# Altium footprint library KSU213WLFG.PcbLib: 1 footprints
Each footprint in its own frame and in the unit in brackets; x right, y up, seen from the top. Pads: shape width x height; smd on the part's side, far side on the other; paste and mask are expansions set on the pad; w line width, h text height; cw(c..) or ccw(c..) is an arc to the next point about the centre after c.
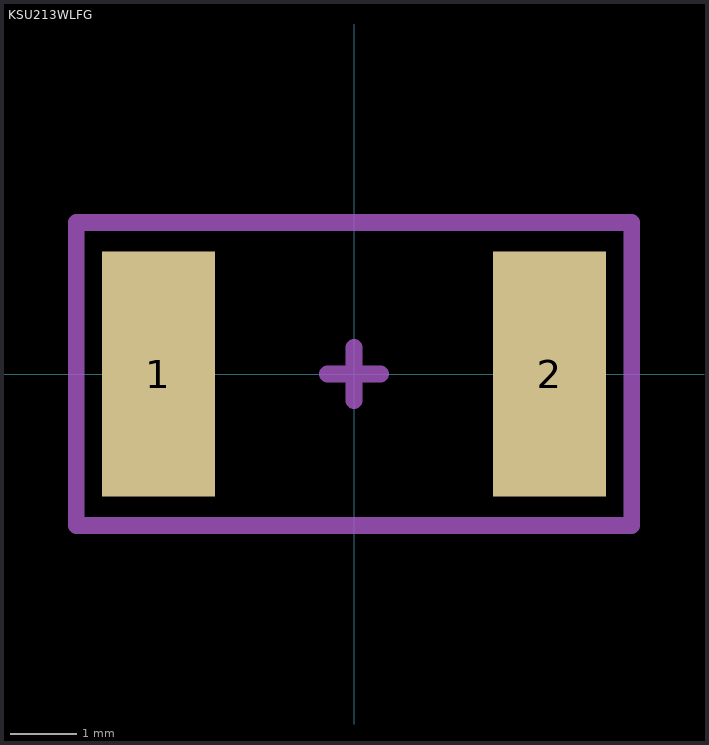
[diagram p0: the footprint, top view; thin cyan lines are the x and y axes]

## KSU213WLFG [mm]
height 5.105
pads (2):
  rect 1.7x3.7 smd: 1(-2.95,0) 2(2.95,0)
Mechanical 15:
  lines w0.254: -3.937,2.286 4.191,2.286 4.191,-2.286 -4.191,-2.286 -4.191,2.286 -3.81,2.286 ; -0.4,0 0.4,0 ; 0,-0.4 0,0.4
3D body "KSU213WLFG.stp": height 5.01, standoff 0, extent -3.5,-1.76 3.5,1.78